# Altium schematic symbol library Schlib1.SchLib: 6 symbols
Pins are listed as number, name and electrical type; pins without a type are passive.

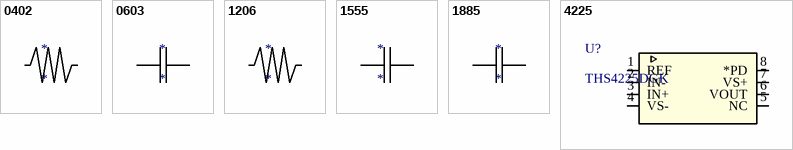
[diagram p0: symbols 0402 to 4225]

## 0402
designator *
footprint 0402 (Chip Capacitor, 2-Leads, Body 1,00x0,50mm, IPC Medium Density)
pins: 1, 2

## 0603
designator *
footprint 0603
pins: 1, 2

## 1206
designator *
footprint 1206
pins: 1, 2

## 1555
designator *
pins: 1, 2

## 1885
designator *
footprint 1885
pins: 1, 2

## 4225
designator U?, comment THS4225DGK
Mfr_Name: Texas Instruments; Copyright: Copyright (C) 2021 Ultra Librarian. All rights reserved.; Manufacturer_Part_Number: THS4225DGK; RefDes: RefDes; Type: DEV
footprint DGK8-M
pins: 1 REF, 2 IN- (in), 3 IN+ (in), 4 VS- (power), 5 NC, 6 VOUT (out), 7 VS+ (power), 8 *PD